# EAGLE library part MAX882 (library selfmade)
Maxim MAX882 Linear Regulator Datenblatt: Link <http://www.datasheetcatalog.org/datasheet/maxim/MAX882-MAX884.pdf>
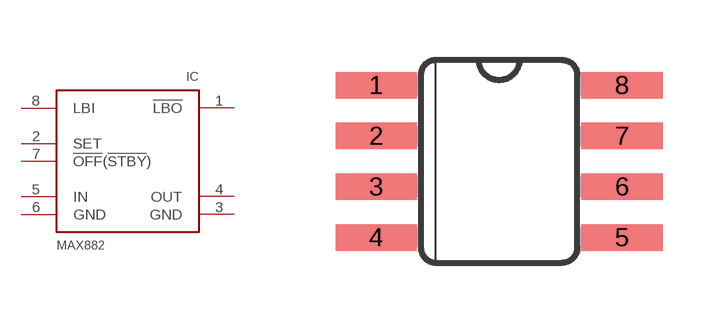
[diagram p7: symbol with the pads of 8-SO; footprint 8-SO]

Designator prefix IC

## MAX882SOIC  [8-SO]
1  !LBO  out
2  SET  in
3  GND  sup
4  OUT  sup
5  IN  sup
6  GND  sup
7  !OFF!(!STBY!)  in
8  LBI  in

## Footprint 8-SO (pad centres in mm)
smd 2.032 x 0.66: 1 -3.073,1.905; 2 -3.073,0.635; 3 -3.073,-0.635; 4 -3.073,-1.905; 5 3.073,-1.905; 6 3.073,-0.635; 7 3.073,0.635; 8 3.073,1.905